# EAGLE library part LTC2495_LTC2495CUHFPBF (library ProbeBoard)
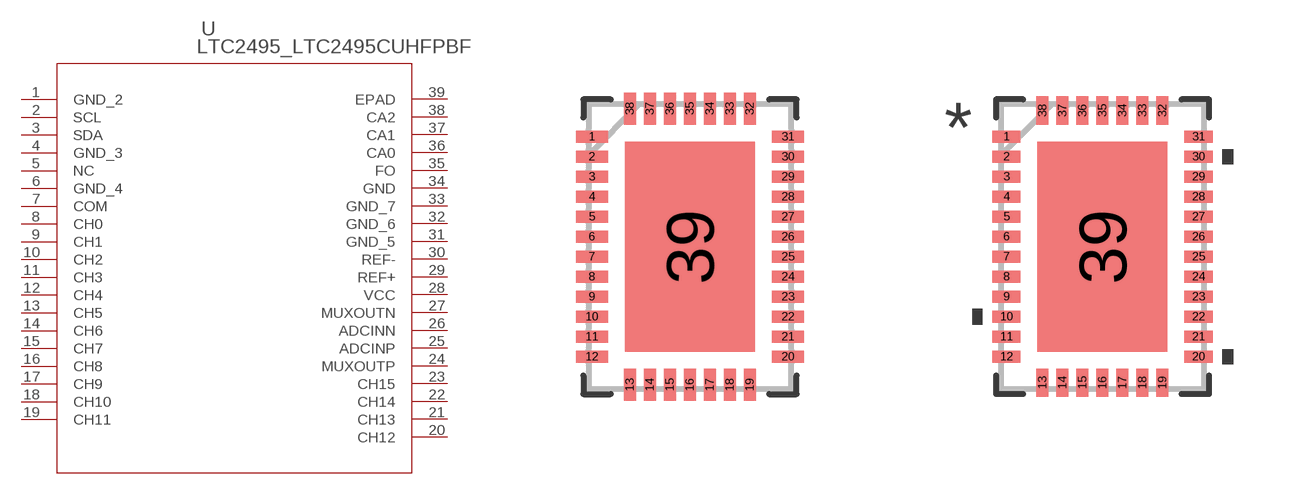
[diagram p0: symbol with the pads of LTC2495_QFN-38_UHF; footprints LTC2495_QFN-38_UHF, LTC2495_QFN-38_UHF-L]

Designator prefix U

## LTC2495_LTC2495CUHFPBF (MANUFACTURER_PART_NUMBER: LTC2495CUHF#PBF; VENDOR: Linear Technology)  [LTC2495_QFN-38_UHF]
1  GND_2  pwr
2  SCL  out
3  SDA
4  GND_3  pwr
5  NC  nc
6  GND_4  pwr
7  COM  in
8  CH0  in
9  CH1  in
10  CH2  in
11  CH3  in
12  CH4  in
13  CH5  in
14  CH6  in
15  CH7  in
16  CH8  in
17  CH9  in
18  CH10  in
19  CH11  in
20  CH12  in
21  CH13  in
22  CH14  in
23  CH15  in
24  MUXOUTP  out
25  ADCINP  in
26  ADCINN  in
27  MUXOUTN  out
28  VCC  pwr
29  REF+  in
30  REF-  in
31  GND_5  pwr
32  GND_6  pwr
33  GND_7  pwr
34  GND  pwr
35  FO  in
36  CA0  pas
37  CA1  pas
38  CA2  pas
39  EPAD  pas

## LTC2495_LTC2495CUHFPBFQFN-38_UHF-L (MANUFACTURER_PART_NUMBER: LTC2495CUHF#PBF; VENDOR: Linear Technology)  [LTC2495_QFN-38_UHF-L]
Pads as for LTC2495_QFN-38_UHF

## LTC2495_LTC2495CUHFPBFQFN-38_UHF-M (MANUFACTURER_PART_NUMBER: LTC2495CUHF#PBF; VENDOR: Linear Technology)  [LTC2495_QFN-38_UHF-M]
Pads as for LTC2495_QFN-38_UHF

## Footprint LTC2495_QFN-38_UHF (pad centres in mm)
smd 0.805 x 0.3: 1 -2.452,2.75; 2 -2.452,2.25; 3 -2.452,1.75; 4 -2.452,1.25; 5 -2.452,0.75; 6 -2.452,0.25; 7 -2.452,-0.25; 8 -2.452,-0.75; 9 -2.452,-1.25; 10 -2.452,-1.75; 11 -2.452,-2.25; 12 -2.452,-2.75; 20 2.452,-2.75; 21 2.452,-2.25; 22 2.452,-1.75; 23 2.452,-1.25; 24 2.452,-0.75; 25 2.452,-0.25; 26 2.452,0.25; 27 2.452,0.75; 28 2.452,1.25; 29 2.452,1.75; 30 2.452,2.25; 31 2.452,2.75
smd 0.3 x 0.805: 13 -1.5,-3.452; 14 -1,-3.452; 15 -0.5,-3.452; 16 0,-3.452; 17 0.5,-3.452; 18 1,-3.452; 19 1.5,-3.452; 32 1.5,3.452; 33 1,3.452; 34 0.5,3.452; 35 0,3.452; 36 -0.5,3.452; 37 -1,3.452; 38 -1.5,3.452
smd 3.25 x 5.25: 39 0,0

## Footprint LTC2495_QFN-38_UHF-L (pad centres in mm)
smd 0.703 x 0.3: 1 -2.402,2.75; 2 -2.402,2.25; 3 -2.402,1.75; 4 -2.402,1.25; 5 -2.402,0.75; 6 -2.402,0.25; 7 -2.402,-0.25; 8 -2.402,-0.75; 9 -2.402,-1.25; 10 -2.402,-1.75; 11 -2.402,-2.25; 12 -2.402,-2.75; 20 2.402,-2.75; 21 2.402,-2.25; 22 2.402,-1.75; 23 2.402,-1.25; 24 2.402,-0.75; 25 2.402,-0.25; 26 2.402,0.25; 27 2.402,0.75; 28 2.402,1.25; 29 2.402,1.75; 30 2.402,2.25; 31 2.402,2.75
smd 0.3 x 0.703: 13 -1.5,-3.402; 14 -1,-3.402; 15 -0.5,-3.402; 16 0,-3.402; 17 0.5,-3.402; 18 1,-3.402; 19 1.5,-3.402; 32 1.5,3.402; 33 1,3.402; 34 0.5,3.402; 35 0,3.402; 36 -0.5,3.402; 37 -1,3.402; 38 -1.5,3.402
smd 3.25 x 5.25: 39 0,0

## Footprint LTC2495_QFN-38_UHF-M (pad centres in mm)
smd 0.906 x 0.3: 1 -2.503,2.75; 2 -2.503,2.25; 3 -2.503,1.75; 4 -2.503,1.25; 5 -2.503,0.75; 6 -2.503,0.25; 7 -2.503,-0.25; 8 -2.503,-0.75; 9 -2.503,-1.25; 10 -2.503,-1.75; 11 -2.503,-2.25; 12 -2.503,-2.75; 20 2.503,-2.75; 21 2.503,-2.25; 22 2.503,-1.75; 23 2.503,-1.25; 24 2.503,-0.75; 25 2.503,-0.25; 26 2.503,0.25; 27 2.503,0.75; 28 2.503,1.25; 29 2.503,1.75; 30 2.503,2.25; 31 2.503,2.75
smd 0.3 x 0.906: 13 -1.5,-3.503; 14 -1,-3.503; 15 -0.5,-3.503; 16 0,-3.503; 17 0.5,-3.503; 18 1,-3.503; 19 1.5,-3.503; 32 1.5,3.503; 33 1,3.503; 34 0.5,3.503; 35 0,3.503; 36 -0.5,3.503; 37 -1,3.503; 38 -1.5,3.503
smd 3.25 x 5.25: 39 0,0